# Altium schematic symbol library Sch_Maxim_Integrated.SchLib: 2 symbols
Pins are listed as number, name and electrical type; pins without a type are passive.

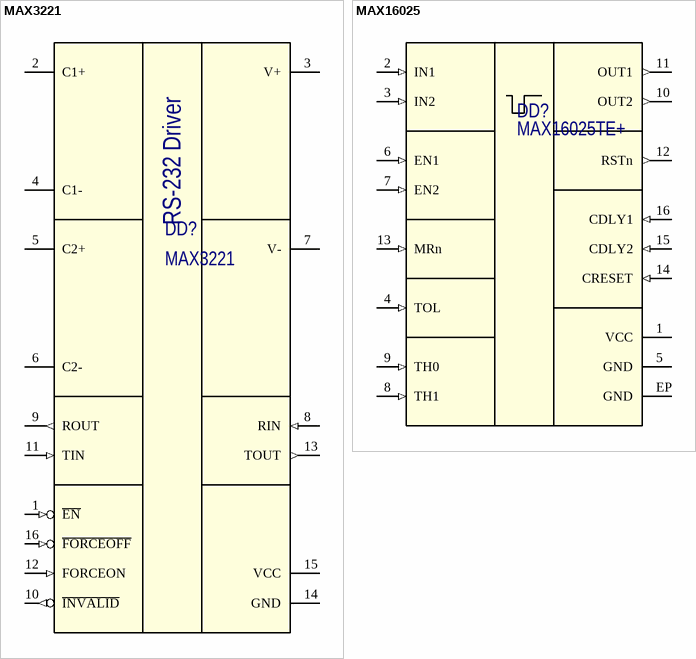
[diagram p0: symbols MAX3221 to MAX16025]

## MAX3221
designator DD?
RS-232 Transceiver with AutoShutdown; Manufacturer: Maxim Intergrated; Part Number: MAX3221
footprint SSOP-16 (SSOP, 16-Leads, Body 6.2x5.3mm, Pitch 0.65mm)
pins: 1 ~{EN} (in), 2 C1+, 3 V+, 4 C1-, 5 C2+, 6 C2-, 7 V-, 8 RIN (in), 9 ROUT (out), 10 ~{INVALID} (out), 11 TIN (in), 12 FORCEON (in), 13 TOUT (out), 14 GND (power), 15 VCC (power), 16 ~{FORCEOFF} (in)
text: RS-232 Driver

## MAX16025
designator DD?, comment MAX16025TE+
Dual-Voltage monitor and sequencer; Manufacturer: Maxim Integrated; Part Number: MAX16025TE+
footprint TQFN16
pins: 1 VCC (power), 2 IN1 (in), 3 IN2 (in), 4 TOL (in), 5 GND (power), 6 EN1 (in), 7 EN2 (in), 8 TH1 (in), 9 TH0 (in), 10 OUT2 (out), 11 OUT1 (out), 12 RSTn (out), 13 MRn (in), 14 CRESET (in), 15 CDLY2 (in), 16 CDLY1 (in), EP GND (power)